# Altium schematic symbol library Lab1.SchLib: 2 symbols
Pins are listed as number, name and electrical type; pins without a type are passive.

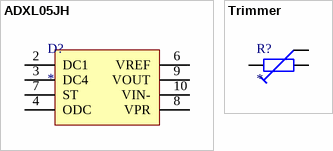
[diagram p0: symbols ADXL05JH to Trimmer]

## ADXL05JH
designator D?
pins: 1 VCC (power) hidden to VCC, 2 DC1, 3 DC4, 4 ODC, 5 GND (power) hidden to GND, 6 VREF, 7 ST, 8 VPR, 9 VOUT, 10 VIN-

## Trimmer
designator R?
pins: 1, 2, 3